# EAGLE library part M20048-1 (library TrackerPeripherals)
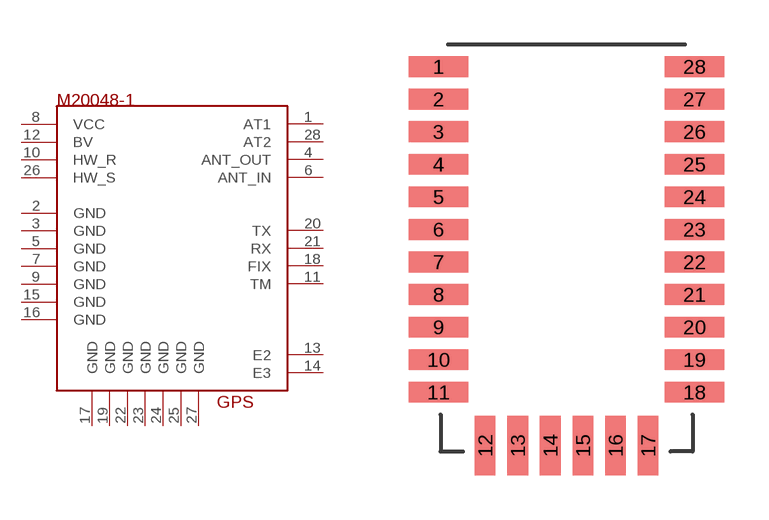
[diagram p2: symbol with the pads of M20048-1; footprint M20048-1]

Designator prefix GPS

## M20048-1  [M20048-1]
1  AT1
2  GND
3  GND
4  ANT_OUT
5  GND
6  ANT_IN
7  GND
8  VCC
9  GND
10  HW_R
11  TM
12  BV
13  E2
14  E3
15  GND
16  GND
17  GND
18  FIX
19  GND
20  TX
21  RX
22  GND
23  GND
24  GND
25  GND
26  HW_S
27  GND
28  AT2

## Footprint M20048-1 (pad centres in mm)
smd 2 x 0.7: 1 -4.32,5.5; 2 -4.32,4.4; 3 -4.32,3.3; 4 -4.32,2.2; 5 -4.32,1.1; 6 -4.32,0; 7 -4.32,-1.1; 8 -4.32,-2.2; 9 -4.32,-3.3; 10 -4.32,-4.4; 11 -4.32,-5.5; 18 4.32,-5.5; 19 4.32,-4.4; 20 4.32,-3.3; 21 4.32,-2.2; 22 4.32,-1.1; 23 4.32,0; 24 4.32,1.1; 25 4.32,2.2; 26 4.32,3.3; 27 4.32,4.4; 28 4.32,5.5
smd 0.7 x 2: 12 -2.75,-7.3; 13 -1.65,-7.3; 14 -0.55,-7.3; 15 0.55,-7.3; 16 1.65,-7.3; 17 2.75,-7.3